# Altium footprint library PcbLib1.PcbLib: 38 footprints (part 2 of 3)
Each footprint in its own frame and in the unit in brackets; x right, y up, seen from the top. Pads: shape width x height; smd on the part's side, far side on the other; paste and mask are expansions set on the pad; w line width, h text height; cw(c..) or ccw(c..) is an arc to the next point about the centre after c.
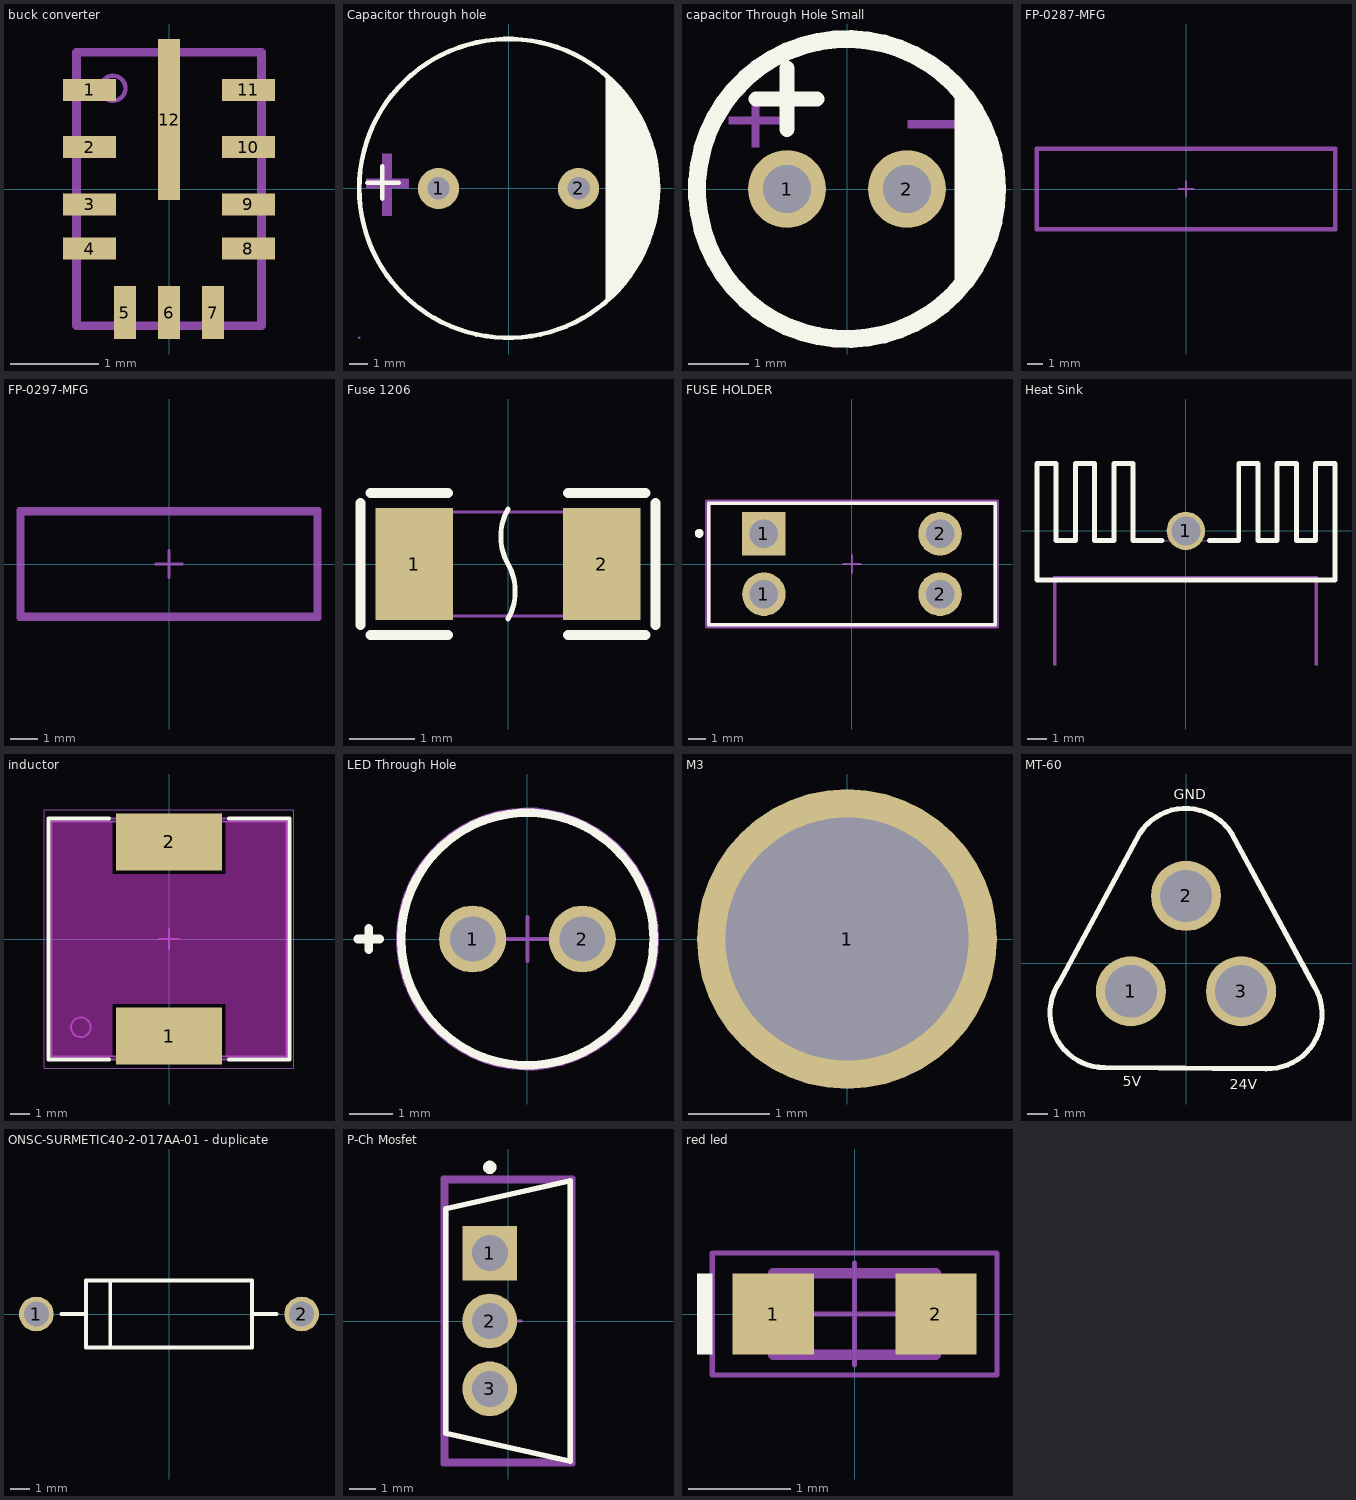
[diagram p1: the footprints below, top view; thin cyan lines are the x and y axes]

## buck converter [mm]
pads (12):
  rect 0.6x0.25 smd paste+0 mask+0: 1(-0.9,1.125) 2(-0.9,0.475) 3(-0.9,-0.175) 4(-0.9,-0.675) 8(0.9,-0.675) 9(0.9,-0.175) 10(0.9,0.475) 11(0.9,1.125)
  rect 0.25x0.6 smd paste+0 mask+0: 5(-0.5,-1.4) 6(0,-1.4) 7(0.5,-1.4)
  rect 0.25x1.825 smd paste-0.9 mask+0: 12(0,0.788)
Top Paste:
  region: -0.124,0.929 -0.125,0.939 -0.125,1.651 -0.124,1.661 -0.121,1.67 -0.117,1.679 -0.11,1.686 -0.103,1.693 -0.094,1.697 -0.085,1.7 -0.075,1.701 0.075,1.701 0.085,1.7 0.094,1.697 0.103,1.693 0.11,1.686 0.117,1.679 0.121,1.67 0.124,1.661 0.125,1.651 0.125,0.939 0.124,0.929 0.121,0.92 0.117,0.911 0.11,0.904 0.103,0.897 0.094,0.893 0.085,0.89 0.075,0.889 -0.075,0.889 -0.085,0.89 -0.094,0.893 -0.103,0.897 -0.11,0.904 -0.117,0.911 -0.121,0.92
  region: -0.124,-0.086 -0.125,-0.076 -0.125,0.636 -0.124,0.646 -0.121,0.655 -0.117,0.664 -0.11,0.671 -0.103,0.678 -0.094,0.682 -0.085,0.685 -0.075,0.686 0.075,0.686 0.085,0.685 0.094,0.682 0.103,0.678 0.11,0.671 0.117,0.664 0.121,0.655 0.124,0.646 0.125,0.636 0.125,-0.076 0.124,-0.086 0.121,-0.095 0.117,-0.104 0.11,-0.111 0.103,-0.118 0.094,-0.122 0.085,-0.125 0.075,-0.126 -0.075,-0.126 -0.085,-0.125 -0.094,-0.122 -0.103,-0.118 -0.11,-0.111 -0.117,-0.104 -0.121,-0.095
Mechanical 13:
  circle w0.05: c-0.635,1.143 r0.141
  lines w0.1: -1.05,-1.55 -1.05,1.55 1.05,1.55 1.05,-1.55 -1.05,-1.55
3D body "RNX0012A.stp": height 1, standoff 0, extent -1,-1.5 1,1.5

## Capacitor through hole [mm]
pads (2):
  round 2.2 hole 1.2: 1(-3.75,0) 2(3.75,0)
Top Overlay:
  circle w0.254: c0,0 r8
  region: 5.207,-6.096 5.535,-5.814 6.126,-5.182 6.646,-4.49 7.089,-3.746 7.449,-2.96 7.724,-2.139 7.908,-1.293 8.001,-0.433 8.001,0.433 7.908,1.293 7.724,2.139 7.449,2.96 7.089,3.746 6.646,4.49 6.126,5.182 5.535,5.814 5.207,6.096
  lines w0.254: -7.553,0.305 -5.877,0.305 ; -6.766,-0.533 -6.766,1.194
Bottom Designator:
  region: 7.7,-0.2 5.414,-0.2 5.414,0.308 7.7,0.308
  region: -6.754,1.851 -6.246,1.851 -6.246,-1.451 -6.754,-1.451
  region: -7.62,0.508 -5.334,0.508 -5.334,0 -7.62,0
Mechanical 15:
  region: -7.94,-8 -7.94,-8.025 -7.975,-8.06 -8.025,-8.06 -8.06,-8.025 -8.06,-8 -8.06,-7.975 -8.025,-7.94 -7.975,-7.94 -7.94,-7.975 -7.94,-8
  region: -3.35,0 -3.35,-0.08 -3.411,-0.227 -3.523,-0.339 -3.67,-0.4 -3.829,-0.4 -3.976,-0.339 -4.089,-0.227 -4.15,-0.08 -4.15,0 -4.15,0.08 -4.089,0.227 -3.976,0.339 -3.829,0.4 -3.67,0.4 -3.523,0.339 -3.411,0.227 -3.35,0.08 -3.35,0
  region: 4.15,0 4.15,-0.08 4.089,-0.227 3.976,-0.339 3.829,-0.4 3.67,-0.4 3.523,-0.339 3.411,-0.227 3.35,-0.08 3.35,0 3.35,0.08 3.411,0.227 3.523,0.339 3.67,0.4 3.829,0.4 3.976,0.339 4.089,0.227 4.15,0.08 4.15,0
  lines w0.051: -8,0 cw(c0,0) 8,0 cw(c0,0) -8,0
3D body "Aluminum_electrolytic_capacitor_radial_D16_H15_PinD0.8_Pitch7.5_nominal_black.step": height 15, standoff -3, extent -8,-7.998 7.989,7.998

## capacitor Through Hole Small [mm]
pads (2):
  round 1.3 hole 0.8: 1(-1,0) 2(1,0)
Top Overlay:
  circle w0.3: c0,0 r2.5
  region: 1.794,1.651 1.961,1.491 2.225,1.111 2.407,0.685 2.5,0.231 2.5,-0.231 2.407,-0.685 2.225,-1.111 1.961,-1.491 1.794,-1.651
  lines w0.254: -1.516,1.5 -0.5,1.5 ; -1,0.997 -1,2.013
Bottom Designator:
  region: 1.016,1.143 1.905,1.143 1.905,1.016 1.016,1.016
  region: -1.588,0.699 -1.588,1.587 -1.461,1.587 -1.46,0.699
  region: -1.969,1.206 -1.08,1.206 -1.08,1.079 -1.969,1.079
Mechanical 15:
  region: 1.3,0 1.3,-0.06 1.254,-0.17 1.17,-0.254 1.06,-0.3 0.94,-0.3 0.83,-0.254 0.746,-0.17 0.7,-0.06 0.7,0 0.7,0.06 0.746,0.17 0.83,0.254 0.94,0.3 1.06,0.3 1.17,0.254 1.254,0.17 1.3,0.06 1.3,0
  region: -0.7,0 -0.7,-0.06 -0.746,-0.17 -0.83,-0.254 -0.94,-0.3 -1.06,-0.3 -1.17,-0.254 -1.254,-0.17 -1.3,-0.06 -1.3,0 -1.3,0.06 -1.254,0.17 -1.17,0.254 -1.06,0.3 -0.94,0.3 -0.83,0.254 -0.746,0.17 -0.7,0.06 -0.7,0
  lines w0.051: 0,-2.5 ccw(c0,0) 2.5,0 ; 0,-2.5 cw(c0,0) -2.5,0 cw(c0,0) 0,2.5 cw(c0,0) 2.5,0 ; 0,-2.5 0,-2.5 ; 2.5,0 2.5,0
3D body "CAP_YX_5X11_RUB.step": height 12.51, standoff -4.06, extent -2.756,-2.753 2.785,2.753

## FP-0287-MFG [mm]
Top 3D Body:
  lines w0.2: -9.55,-2.55 9.55,-2.55 9.55,2.55 -9.55,2.55 -9.55,-2.55
Top Courtyard:
  lines w0.2: -9.65,-2.65 9.65,-2.65 9.65,2.65 -9.65,2.65 -9.65,-2.65
Top Assembly:
  lines w0.2: -9.65,-2.65 9.65,-2.65 9.65,2.65 -9.65,2.65 -9.65,-2.65
Top Component Center:
  lines w0.1: -0.5,0 0.5,0 ; 0,-0.5 0,0.5
3D body "Fuse_Littelfuse_Inc_0287002_PXCN_eec.STEP": height 0.25, standoff 0, extent -9.65,-2.65 9.65,2.65

## FP-0297-MFG [mm]
Top 3D Body:
  lines w0.2: -5.45,-1.9 -5.45,1.9 5.45,1.9 5.45,-1.9 -5.45,-1.9
Top Courtyard:
  lines w0.2: -5.55,-2 -5.55,2 5.55,2 5.55,-2 -5.55,-2
Top Assembly:
  lines w0.2: -5.55,-2 -5.55,2 5.55,2 5.55,-2 -5.55,-2
Top Component Center:
  lines w0.1: -0.5,0 0.5,0 ; 0,-0.5 0,0.5
3D body "Fuse_Littelfuse_Inc_0297005_WXNV_eec.STEP": height 0.25, standoff 0, extent -5.55,-2 5.55,2

## Fuse 1206 [mm]
pads (2):
  rect 1.19x1.728 smd: 1(-1.445,0) 2(1.445,0)
Top Overlay:
  lines w0.076: 0,-0.845 ccw(c-0.732,-0.422) 0,0 cw(c0.732,0.422) 0,0.845
  lines w0.152: -2.269,-0.94 -2.269,0.94 ; -2.116,-1.093 -0.926,-1.093 ; -2.116,1.093 -0.926,1.093 ; 0.926,-1.093 2.116,-1.093 ; 0.926,1.093 2.116,1.093 ; 2.269,-0.94 2.269,0.94
Mechanical 15:
  region: 1.1,-0.8 1.6,-0.8 1.6,0.8 1.1,0.8
  region: -1.6,-0.8 -1.1,-0.8 -1.1,0.8 -1.6,0.8
  region: -1.54,-0.8 -1.54,-0.825 -1.575,-0.86 -1.625,-0.86 -1.66,-0.825 -1.66,-0.8 -1.66,-0.775 -1.625,-0.74 -1.575,-0.74 -1.54,-0.775 -1.54,-0.8
  lines w0.051: -1.6,-0.8 -1.6,0.8 1.6,0.8 1.6,-0.8 -1.6,-0.8
3D body "SF-1206SA1000R-2.stp": height 0.7, standoff 0, extent -1.6,-0.825 1.6,0.825

## FUSE HOLDER [mm]
pads (4):
  round 2.45 hole 1.6 paste-2539.97 mask+0: 1(-4.96,-1.7) 2(4.96,-1.7) 2(4.96,1.7)
  rect 2.45x2.45 hole 1.6 paste-2539.97 mask+0: 1(-4.96,1.7)
Top Overlay:
  circle w0.25: c-8.6,1.725 r0.125
  lines w0.2: -8.065,-3.43 8.065,-3.43 8.065,3.43 -8.065,3.43 -8.065,-3.43
Top 3D Body:
  lines w0.2: -8.065,-3.43 8.065,-3.43 8.065,3.43 -8.065,3.43 -8.065,-3.43
Top Courtyard:
  lines w0.2: -8.165,-3.53 8.165,-3.53 8.165,3.53 -8.165,3.53 -8.165,-3.53
Top Assembly:
  lines w0.2: -8.165,-3.53 8.165,-3.53 8.165,3.53 -8.165,3.53 -8.165,-3.53
  text ".Designator" at 0,0.188 h1
Top Component Center:
  lines w0.1: -0.5,0 0.5,0 ; 0,-0.5 0,0.5
3D body "Fuse_Keystone_3568_eec.STEP": height 0.25, standoff 0, extent -8.165,-3.53 8.165,3.53

## Heat Sink [mm]
pads (1):
  round 2 hole 1.5: 1(0,0)
Top Overlay:
  lines w0.254: -1.233,-0.5 -2.75,-0.5 -2.75,3.5 -3.75,3.5 -3.75,-0.5 -4.75,-0.5 -4.75,3.5 -5.75,3.5 -5.75,-0.5 -6.75,-0.5 -6.75,3.5 -7.75,3.5 -7.75,-2.543 -6.707,-2.543 -3.093,-2.543 4.136,-2.543 7.75,-2.543 ; 1.233,-0.5 2.75,-0.5 2.75,3.5 3.75,3.5 3.75,-0.5 4.75,-0.5 4.75,3.5 5.75,3.5 5.75,-0.5 6.75,-0.5 6.75,3.5 7.75,3.5 7.75,-2.54
Bottom Designator:
  region: 6.7,-7 6.7,-2.5 -6.75,-2.5 -6.75,-2.55 -6.75,-7 -6.85,-7 -6.9,-7 -6.9,-2.35 6.85,-2.35 6.85,-2.5 6.85,-7
Mechanical 15:
  region: 0.65,0 0.65,-0.086 0.606,-0.251 0.52,-0.399 0.399,-0.52 0.251,-0.606 0.086,-0.65 -0.086,-0.65 -0.251,-0.606 -0.399,-0.52 -0.52,-0.399 -0.606,-0.251 -0.65,-0.086 -0.65,0 -0.65,0.086 -0.606,0.251 -0.52,0.399 -0.399,0.52 -0.251,0.606 -0.086,0.65 0.086,0.65 0.251,0.606 0.399,0.52 0.52,0.399 0.606,0.251 0.65,0.086 0.65,0
  region: 7.81,3.5 7.81,3.475 7.775,3.44 7.725,3.44 7.69,3.475 7.69,3.5 7.69,3.525 7.725,3.56 7.775,3.56 7.81,3.525 7.81,3.5
  lines w0.051: -7.8,3.5 -6.75,3.5 -6.75,-0.5 -5.75,-0.5 -5.75,3.5 -4.75,3.5 -4.75,3.45 -4.75,-0.5 -3.75,-0.5 -3.75,3.5 -2.75,3.5 -2.75,-0.5 2.75,-0.5 2.75,3.45 2.75,3.5 3.75,3.5 3.75,-0.5 4.75,-0.5 4.75,3.5 5.75,3.5 5.75,-0.5 6.75,-0.5 6.75,3.5 7.75,3.5 ; -6.75,-2.5 6.7,-2.5
3D body "C_TO-220_10x15x30_b_c-pin.STEP": height 30, standoff -4, extent -7.5,-6.5 7.5,3.497

## inductor [mm] "SMT Shielded Power Inductor, 2-leads, body 12x12mm"
height 6
pads (2):
  rect 5.4x2.9 smd: 1(0,-4.95) 2(0,4.95)
Top Layer keep-out:
  region: -6,6 -2.9,6 -2.9,3.3 2.9,3.3 2.9,6 6,6 6,-6 2.9,-6 2.9,-3.3 -2.9,-3.3 -2.9,-6 -6,-6
Top Overlay:
  lines w0.2: -3.05,-6.15 -6.15,-6.15 -6.15,6.15 -3.05,6.15 ; 3.05,-6.15 6.15,-6.15 6.15,6.15 3.05,6.15
Top 3D Body:
  circle w0.1: c-4.5,-4.5 r0.5
  lines w0.1: -6,-6 -6,6 6,6 6,-6 -6,-6
Top Courtyard:
  lines w0.05: -6.35,-6.6 6.35,-6.6 6.35,6.6 -6.35,6.6 -6.35,-6.6
Top Designator:
  text ".Designator" at -3.647,-0.357 h1
Top Assembly:
  circle w0.1: c-4.5,-4.5 r0.5
  lines w0.1: -6.15,-6.15 -6.15,6.15 6.15,6.15 6.15,-6.15 -6.15,-6.15
Top Component Center:
  lines w0.1: -0.5,0 0.5,0 ; 0,-0.5 0,0.5
3D body "WE-PD_1260_m-base_744771xxx.stp": height 5.66, standoff 0, extent -6,-6 6,6

## LED Through Hole [mm] "THD, 2-Leads, Dia 5.845mm, Pitch 2.54mm"
pads (2):
  round 1.55 hole 1.05: 1(-1.27,0) 2(1.27,0)
Top Overlay:
  circle w0.2: c0,0 r2.923
  lines w0.2: -3.922,0 -3.423,0 ; -3.672,-0.25 -3.672,0.25
Mechanical 13:
  circle w0.1: c0,0 r2.923
Mechanical 15:
  circle w0.05: c0,0 r3.023
  lines w0.1: -0.5,0 0.5,0 ; 0,-0.5 0,0.5

## M3 [mm]
pads (1):
  round 3.7 hole 3: 1(0,0)

## MT-60 [mm]
pads (3):
  round 3.5 hole 2.605: 1(-2.75,-1.397) 2(0,3.366) 3(2.75,-1.397)
Top Overlay:
  lines w0.254: -6.335,-0.964 ccw(c-4.064,-2.478) -4.064,-5.207 3.991,-5.268 ccw(c4.064,-2.54) 6.395,-1.12 2.286,6.477 ccw(c-0.016,5.01) -2.307,6.493 -6.335,-0.964
  text "5V" at -3.16,-6.152 h0.51
  text "24V" at 2.174,-6.279 h0.51
  text "GND" at -0.62,8.199 h0.51
Bottom Overlay:
  text "24V" at 3.556,-4.064 h0.51
  text "5V" at -2.413,-3.937 h0.51
  text "GND" at 0.635,5.588 h0.51
3D body "FemaleMT60.stp": height 15, standoff 0, extent -6.804,-5.196 6.804,7.392

## ONSC-SURMETIC40-2-017AA-01 - duplicate [mm] "AXIAL, 2-Leads, Diameter 3.49mm"
height 3.49
pads (2):
  round 1.8 hole 1.3: 1(-6.887,0) 2(6.887,0)
Top Overlay:
  lines w0.2: -5.587,0 -4.317,0 ; -3.047,-1.745 -3.047,1.745 ; 4.317,0 5.587,0 ; -4.317,-1.745 4.317,-1.745 4.317,1.745 -4.317,1.745 -4.317,-1.745

## P-Ch Mosfet [mm]
pads (3):
  rect 2.05x2.05 hole 1.35 paste-2539.97 mask+0: 1(-0.683,2.54)
  round 2.05 hole 1.35 paste-2539.97 mask+0: 2(-0.683,0) 3(-0.683,-2.54)
Top Overlay:
  circle w0.25: c-0.683,5.755 r0.125
  lines w0.2: 2.325,-5.255 -2.325,-4.204 -2.325,4.204 2.325,5.255 ; 2.325,-5.205 2.325,5.205
Top 3D Body:
  lines w0.2: -2.325,-5.255 2.325,-5.255 2.325,5.255 -2.325,5.255 -2.325,-5.255
Top Courtyard:
  lines w0.2: -2.425,-5.355 2.425,-5.355 2.425,5.355 -2.425,5.355 -2.425,-5.355
Top Assembly:
  lines w0.2: -2.425,-5.355 2.425,-5.355 2.425,5.355 -2.425,5.355 -2.425,-5.355
  text ".Designator" at 0,-0.001 h1
Top Component Center:
  lines w0.1: -0.5,0 0.5,0 ; 0,-0.5 0,0.5
3D body "Trans_Vishay_SUP90P06-09L-E3_eec.STEP": height 0.25, standoff 0, extent -2.425,-5.355 2.425,5.355

## PCBComponent_1 [mm]

## red led [mm] "SMD Mono-color Chip LED, body 1.60 x 0.80 mm"
height 0.7
pads (2):
  rect 0.8x0.8 smd: 1(-0.8,0) 2(0.8,0)
Top Overlay:
  rectangle: -1.55,-0.4 -1.4,0.4
Top Courtyard:
  lines w0.05: -1.4,-0.6 1.4,-0.6 1.4,0.6 -1.4,0.6 -1.4,-0.6
Top Component Outline:
  rectangle: -0.8,-0.4 -0.5,0.4
  lines w0.1: -0.8,-0.4 0.8,-0.4 0.8,0.4 -0.8,0.4 -0.8,-0.4
Top Component Center:
  lines w0.05: -0.5,0 0.5,0 ; 0,-0.5 0,0.5
3D body "150060xxx.stp": height 0.7, standoff 0, extent -0.8,-0.4 0.8,0.4